# Altium footprint library DiscretesTHT.PCBLIB: 12 footprints
Each footprint in its own frame and in the unit in brackets; x right, y up, seen from the top. Pads: shape width x height; smd on the part's side, far side on the other; paste and mask are expansions set on the pad; w line width, h text height; cw(c..) or ccw(c..) is an arc to the next point about the centre after c.
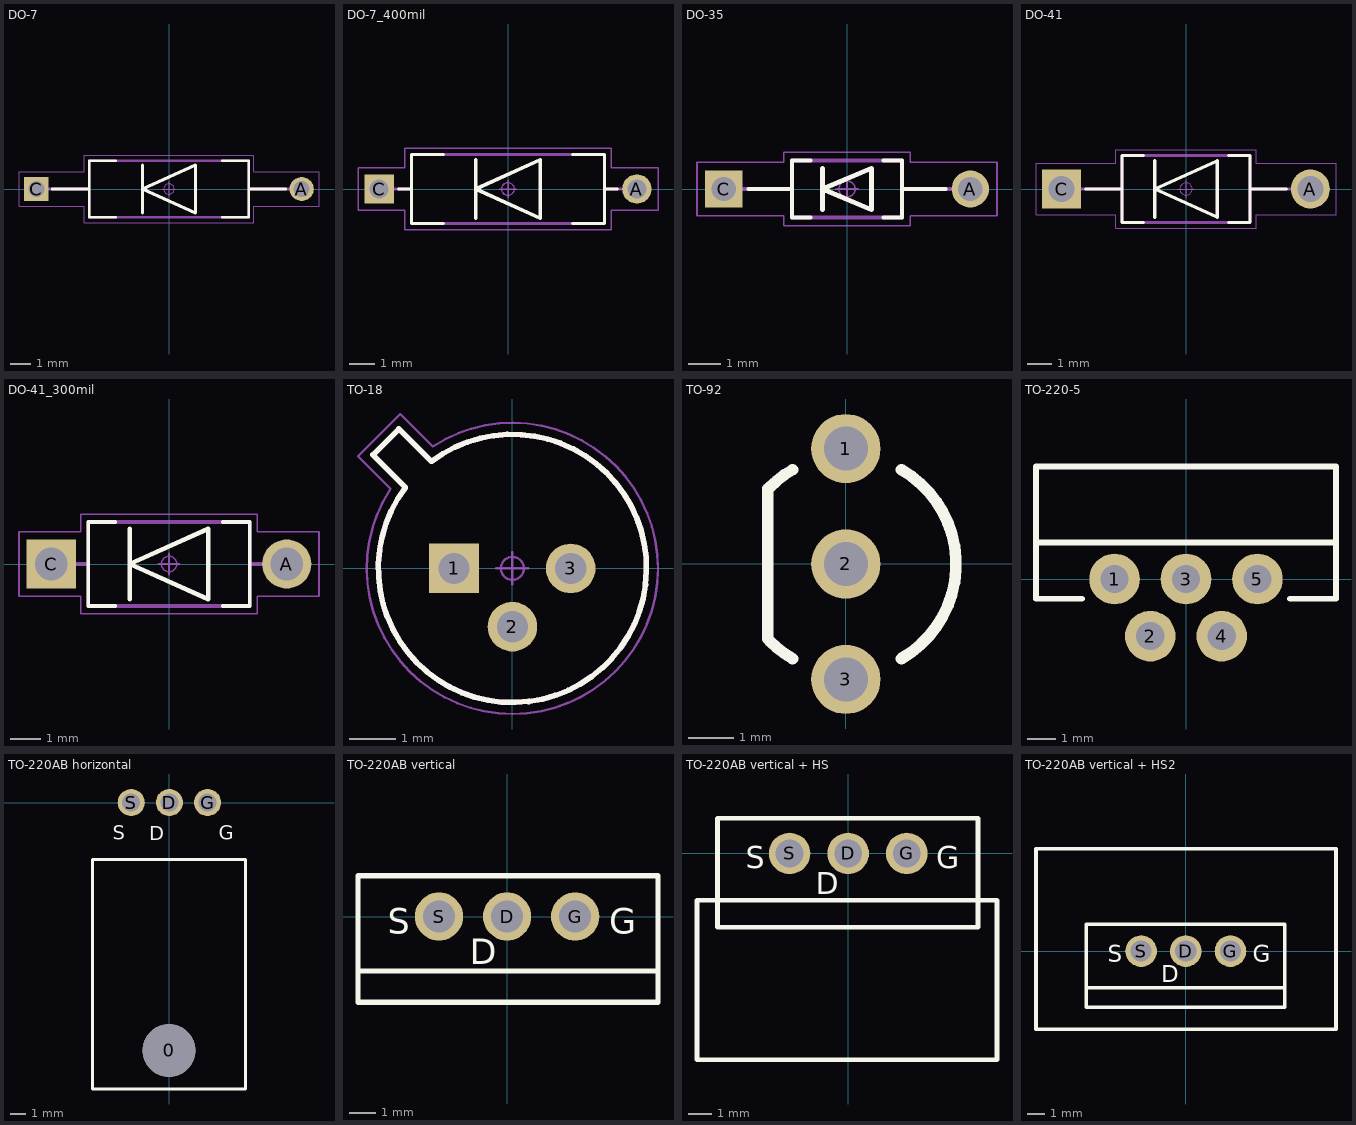
[diagram p0: the footprints below, top view; thin cyan lines are the x and y axes]

## DO-7 [mm] "Diode, Axial; 12.70 mm C X 0.508 mm W 7.62 mm L X 2.71 mm Dia body"
height 2.71
pads (2):
  round 1.16 hole 0.76 paste-1.16: A(6.35,0)
  rect 1.16x1.16 hole 0.76 paste-1.16: C(-6.35,0)
Top Overlay:
  lines w0.12: -5.59,0 -3.81,0 ; -2.54,-1.36 -3.81,-1.36 -3.81,1.36 -2.54,1.36 ; 2.54,-1.36 3.81,-1.36 3.81,1.36 2.54,1.36 ; 3.81,0 5.59,0
  lines w0.15: -1.27,-1.143 -1.27,1.143 ; -1.27,0 1.27,1.143 1.27,-1.143 -1.27,0
Top Body, 3D Models:
  lines w0.025: -3.81,-1.355 -3.81,1.355 3.81,1.355 3.81,-1.355 -3.81,-1.355
Top Courtyard:
  circle w0.05: c0,0 r0.25
  lines w0.05: -0.35,0 0.35,0 ; 0,-0.35 0,0.35 ; -7.18,-0.83 -7.18,0.83 -4.06,0.83 -4.06,1.61 4.06,1.61 4.06,0.83 7.18,0.83 7.18,-0.83 4.06,-0.83 4.06,-1.61 -4.06,-1.61 -4.06,-0.83 -7.18,-0.83
Top DesignatorDoc:
  text ".Designator" at 0,0 h1.2
Top Pad Outlines:
  circle w0.025: c-6.35,0 r0.279
  circle w0.025: c6.35,0 r0.279
Top Assembly Outline:
  lines w0.12: -5.77,0 -3.81,0 ; 3.81,0 5.77,0 ; -3.81,-1.36 -3.81,1.36 3.81,1.36 3.81,-1.36 -3.81,-1.36
3D body "DO-7.STEP": height 2.72, standoff -2, extent -6.604,-1.362 6.604,1.362

## DO-7_400mil [mm] "Diode, Axial; 10.16 mm C X 0.508 mm W 7.62 mm L X 2.71 mm Dia body"
height 2.71
pads (2):
  round 1.16 hole 0.76 paste-1.16: A(5.08,0)
  rect 1.16x1.16 hole 0.76 paste-1.16: C(-5.08,0)
Top Overlay:
  lines w0.12: -4.32,0 -3.81,0 ; -2.54,-1.36 -3.81,-1.36 -3.81,1.36 -2.54,1.36 ; 2.54,-1.36 3.81,-1.36 3.81,1.36 2.54,1.36 ; 3.81,0 4.32,0
  lines w0.15: -1.27,-1.143 -1.27,1.143 ; -1.27,0 1.27,1.143 1.27,-1.143 -1.27,0
Top Body, 3D Models:
  lines w0.025: -3.81,-1.355 -3.81,1.355 3.81,1.355 3.81,-1.355 -3.81,-1.355
Top Courtyard:
  circle w0.05: c0,0 r0.25
  lines w0.05: -0.35,0 0.35,0 ; 0,-0.35 0,0.35 ; -5.91,-0.83 -5.91,0.83 -4.06,0.83 -4.06,1.61 4.06,1.61 4.06,0.83 5.91,0.83 5.91,-0.83 4.06,-0.83 4.06,-1.61 -4.06,-1.61 -4.06,-0.83 -5.91,-0.83
Top DesignatorDoc:
  text ".Designator" at 0,0 h1.2
Top Pad Outlines:
  circle w0.025: c-5.08,0 r0.279
  circle w0.025: c5.08,0 r0.279
Top Assembly Outline:
  lines w0.12: -4.5,0 -3.81,0 ; 3.81,0 4.5,0 ; -3.81,-1.36 -3.81,1.36 3.81,1.36 3.81,-1.36 -3.81,-1.36
3D body "DO-7_400mil.STEP": height 2.72, standoff -2, extent -5.334,-1.362 5.334,1.362

## DO-35 [mm] "Diode, Axial; 7.62 mm C X 0.50 mm W 3.40 mm L X 1.75 mm Dia body"
height 1.75
pads (2):
  round 1.15 hole 0.75 paste-1.15: A(3.81,0)
  rect 1.15x1.15 hole 0.75 paste-1.15: C(-3.81,0)
Top Overlay:
  lines w0.12: -3.05,0 -1.7,0 ; -1.13,-0.88 -1.7,-0.88 -1.7,0.88 -1.13,0.88 ; 1.13,-0.88 1.7,-0.88 1.7,0.88 1.13,0.88 ; 1.7,0 3.05,0
  lines w0.15: -0.762,-0.635 -0.762,0.635 ; -0.762,0 0.762,-0.635 0.762,0.635 -0.762,0
Top Body, 3D Models:
  lines w0.025: -1.7,-0.875 1.7,-0.875 1.7,0.875 -1.7,0.875 -1.7,-0.875
Top Courtyard:
  circle w0.05: c0,0 r0.25
  lines w0.05: -0.35,0 0.35,0 ; 0,-0.35 0,0.35 ; -4.635,-0.825 -1.95,-0.825 -1.95,-1.13 1.95,-1.13 1.95,-0.825 4.635,-0.825 4.635,0.825 1.95,0.825 1.95,1.13 -1.95,1.13 -1.95,0.825 -4.635,0.825 -4.635,-0.825
Top DesignatorDoc:
  text ".Designator" at 0,0 h1.2
Top Pad Outlines:
  circle w0.025: c3.81,0 r0.275
  circle w0.025: c-3.81,0 r0.275
Top Assembly Outline:
  lines w0.12: -3.235,0 -1.7,0 ; 1.7,0 3.235,0 ; -1.7,-0.88 1.7,-0.88 1.7,0.88 -1.7,0.88 -1.7,-0.88
3D body "DO-35.STEP": height 1.76, standoff -2, extent -4.06,-0.882 4.06,0.882

## DO-41 [mm] "Diode, Axial; 10.16 mm C X 0.787 mm W 5.21 mm L X 2.72 mm Dia body"
height 2.72
pads (2):
  round 1.59 hole 1.06 paste-1.59: A(5.08,0)
  rect 1.59x1.59 hole 1.06 paste-1.59: C(-5.08,0)
Top Overlay:
  lines w0.12: -4.1,0 -2.61,0 ; -1.74,-1.36 -2.61,-1.36 -2.61,1.36 -1.74,1.36 ; 1.74,-1.36 2.61,-1.36 2.61,1.36 1.74,1.36 ; 2.61,0 4.1,0
  lines w0.15: -1.27,-1.143 -1.27,1.143 ; -1.27,0 1.27,-1.143 1.27,1.143 -1.27,0
Top Body, 3D Models:
  lines w0.025: -2.605,-1.36 -2.605,1.36 2.605,1.36 2.605,-1.36 -2.605,-1.36
Top Courtyard:
  circle w0.05: c0,0 r0.25
  lines w0.05: -0.35,0 0.35,0 ; 0,-0.35 0,0.35 ; -6.125,-1.045 -6.125,1.045 -2.86,1.045 -2.86,1.61 2.86,1.61 2.86,1.045 6.125,1.045 6.125,-1.045 2.86,-1.045 2.86,-1.61 -2.86,-1.61 -2.86,-1.045 -6.125,-1.045
Top DesignatorDoc:
  text ".Designator" at 0,0 h1.2
Top Pad Outlines:
  circle w0.025: c-5.08,0 r0.432
  circle w0.025: c5.08,0 r0.432
Top Assembly Outline:
  lines w0.12: -4.285,0 -2.61,0 ; 2.61,0 4.285,0 ; -2.61,-1.36 -2.61,1.36 2.61,1.36 2.61,-1.36 -2.61,-1.36
3D body "DO-41.STEP": height 2.73, standoff -2, extent -5.473,-1.367 5.473,1.367

## DO-41_300mil [mm] "Diode, Axial; 7.62 mm C X 0.787 mm W 5.21 mm L X 2.72 mm Dia body"
height 2.72
pads (2):
  round 1.59 hole 1.06 paste-1.59: A(3.81,0)
  rect 1.59x1.59 hole 1.06 paste-1.59: C(-3.81,0)
Top Overlay:
  lines w0.12: -1.74,-1.36 -2.61,-1.36 -2.61,1.36 -1.74,1.36 ; 1.74,-1.36 2.61,-1.36 2.61,1.36 1.74,1.36
  lines w0.15: -1.27,-1.143 -1.27,1.143 ; -1.27,0 1.27,1.143 1.27,-1.143 -1.27,0
Top Body, 3D Models:
  lines w0.025: -2.605,-1.36 -2.605,1.36 2.605,1.36 2.605,-1.36 -2.605,-1.36
Top Courtyard:
  circle w0.05: c0,0 r0.25
  lines w0.05: -0.35,0 0.35,0 ; 0,-0.35 0,0.35 ; -4.855,-1.045 -4.855,1.045 -2.86,1.045 -2.86,1.61 2.86,1.61 2.86,1.045 4.855,1.045 4.855,-1.045 2.86,-1.045 2.86,-1.61 -2.86,-1.61 -2.86,-1.045 -4.855,-1.045
Top DesignatorDoc:
  text ".Designator" at 0,0 h1.2
Top Pad Outlines:
  circle w0.025: c-3.81,0 r0.432
  circle w0.025: c3.81,0 r0.432
Top Assembly Outline:
  lines w0.12: -3.015,0 -2.61,0 ; 2.61,0 3.015,0 ; -2.61,-1.36 -2.61,1.36 2.61,1.36 2.61,-1.36 -2.61,-1.36
3D body "DO-41_300mil.STEP": height 2.73, standoff -2, extent -4.203,-1.367 4.203,1.367

## TO-18 [mm] "TO Cylindrical Style, 1.27 mm pitch; 3 pin, 5.84 mm W X 5.50 mm H body"
height 5.5
pads (3):
  rect 1.08x1.08 hole 0.68 paste-1.08: 1(-1.27,0)
  round 1.08 hole 0.68 paste-1.08: 2(0,-1.27) 3(1.27,0)
Top Overlay:
  lines w0.12: -3.035,2.47 -2.47,3.035 -1.762,2.328 cw(c0,0) -2.328,1.762 -3.035,2.47
Top Body, 3D Models:
  lines w0.025: -3.035,2.47 -2.47,3.035 -1.762,2.328 cw(c0,0) -2.328,1.762 -3.035,2.47
Top Courtyard:
  circle w0.05: c0,0 r0.25
  lines w0.05: -0.35,0 0.35,0 ; 0,-0.35 0,0.35 ; -3.361,2.441 -2.441,3.361 -1.734,2.654 cw(c0,0) -2.654,1.734 -3.361,2.441
Top DesignatorDoc:
  text ".Designator" at 0,0 h1.2
Top Pad Outlines:
  circle w0.025: c-1.27,0 r0.24
  circle w0.025: c0,-1.27 r0.24
  circle w0.025: c1.27,0 r0.24
Top Assembly Outline:
  lines w0.12: -3.035,2.47 -2.47,3.035 -1.762,2.328 cw(c0,0) -2.328,1.762 -3.035,2.47
3D body "TO-18.STEP": height 5.5, standoff -2, extent -3.043,-2.92 2.92,3.043

## TO-92 [mil]
pads (3):
  round 60 hole 38: 1(0,100) 2(0,0) 3(0,-100)
Top Overlay:
  lines w10: -67.52,-64.67 -67.52,65.26 ; -65.83,-66.91 ccw(c0.98,-0.1) -46.26,-81.93 ; -65.83,66.71 cw(c0.98,-0.1) -46.26,81.73 ; 48.23,-81.93 ccw(c0.98,-0.1) 48.23,81.73
Top DesignatorDoc:
  text ".Designator" at 0,0 h59.06
3D body "User Library-TO-92-1.step": height 216.54, standoff -86.61, extent -62.99,-109.84 93.36,109.84

## TO-220-5 [mm]
pads (5):
  round 1.8 hole 1: 1(-2.54,0) 2(-1.27,-2.032) 3(0,0) 4(1.27,-2.032) 5(2.54,0)
Top Overlay:
  lines w0.203: -5.334,1.3 5.334,1.3 ; -3.7,-0.7 -5.334,-0.7 -5.334,4 5.334,4 5.334,-0.7 3.7,-0.7
Top DesignatorDoc:
  text ".Designator" at 0,0 h1.5

## TO-220AB horizontal [mm]
height 20
pads (4):
  round 3.5 hole 3.5 unplated: 0(-0.025,-16.51)
  round 1.8 hole 1.2: D(0,0) G(2.54,0) S(-2.54,0)
Top Overlay:
  lines w0.203: -5.131,-19.075 5.08,-19.075 5.08,-3.785 -5.131,-3.785 -5.131,-19.075
  text "D" at -1.346,-2.515 h0.95
  text "G" at 3.277,-2.489 h0.95
  text "S" at -3.785,-2.489 h0.95
Top DesignatorDoc:
  text ".Designator" at 0,0 h1.5
3D body "User Library-to-220.step": height 4.47, standoff -1.77, extent -5.105,-19.051 5.055,0.229

## TO-220AB vertical [mm]
height 20
pads (3):
  round 1.8 hole 1.2: D(0,0) G(2.54,0) S(-2.54,0)
Top Overlay:
  lines w0.203: -5.563,-2.032 5.613,-2.032 ; -5.563,-3.2 5.632,-3.2 5.632,1.524 -5.563,1.524 -5.563,-3.2
  text "D" at -1.397,-1.778 h0.95
  text "G" at 3.81,-0.635 h0.95
  text "S" at -4.445,-0.635 h0.95
Top DesignatorDoc:
  text ".Designator" at 0,0 h1.5
3D body "User Library-TO220AB.step": height 19.33, standoff -10, extent -5.581,-3.191 5.632,1.499

## TO-220AB vertical + HS [mm]
height 20
pads (3):
  round 1.8 hole 1.2: D(0,0) G(2.54,0) S(-2.54,0)
Top Overlay:
  lines w0.203: -6.553,-8.941 6.452,-8.941 6.452,-2.032 -6.553,-2.032 -6.553,-8.941 ; -5.664,-3.2 -5.664,1.524 5.632,1.524 5.632,-3.2 -5.664,-3.2
  text "S" at -4.445,-0.635 h0.95
  text "G" at 3.81,-0.635 h0.95
  text "D" at -1.397,-1.778 h0.95
Top DesignatorDoc:
  text ".Designator" at 0,0 h1.5
3D body "User Library-TO-220 Con Disipador 34M8491.STEP": height 29.45, standoff -6.25, extent -15.324,-19.691 15.363,10.54

## TO-220AB vertical + HS2 [mm]
height 20
pads (3):
  round 1.8 hole 1.2: D(0,0) G(2.54,0) S(-2.54,0)
Top Overlay:
  lines w0.203: -5.664,-2.083 5.632,-2.083 ; -8.509,-4.445 -8.509,5.817 8.534,5.817 8.534,-4.445 -8.509,-4.445 ; -5.664,-3.2 5.632,-3.2 5.632,1.524 -5.664,1.524 -5.664,-3.2
  text "D" at -1.397,-1.778 h0.95
  text "G" at 3.81,-0.635 h0.95
  text "S" at -4.445,-0.635 h0.95
Top DesignatorDoc:
  text ".Designator" at 0,0 h1.5
3D body "User Library-Package T0-220AB With Heatsing Vertical Mount.STEP": height 20.02, standoff -5.92, extent -8.469,-4.407 8.531,5.813